# Altium footprint library MCU Board.PCBLIB: 34 footprints (part 3 of 3)
Each footprint in its own frame and in the unit in brackets; x right, y up, seen from the top. Pads: shape width x height; smd on the part's side, far side on the other; paste and mask are expansions set on the pad; w line width, h text height; cw(c..) or ccw(c..) is an arc to the next point about the centre after c.
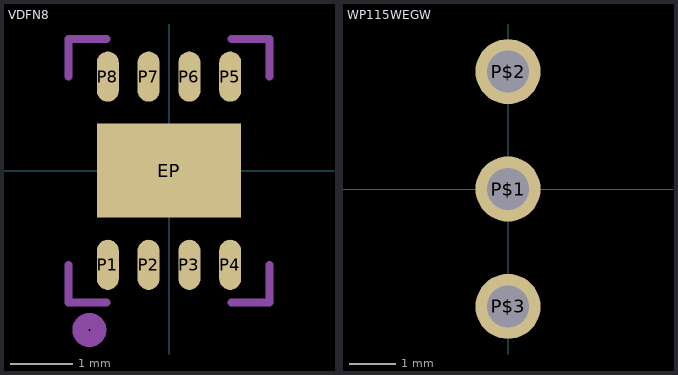
[diagram p2: the footprints below, top view; thin cyan lines are the x and y axes]

## VDFN8 [mil]
pads (9):
  rect 90.55x59.06 smd: EP(0,0)
  rrect100% 13.78x31.5 smd: P1(-38.39,-59.06) P2(-12.8,-59.06) P3(12.8,-59.06) P4(38.39,-59.06) P5(38.39,59.06) P6(12.8,59.06) P7(-12.8,59.06) P8(-38.39,59.06)
tDocu:
  circle w10: c-50,-100 r5.66
  lines w5: -62.99,-59.06 -62.99,-82.68 -39.37,-82.68 ; -62.99,59.06 -62.99,82.68 -39.37,82.68 ; 39.37,-82.68 62.99,-82.68 62.99,-59.06 ; 39.37,82.68 62.99,82.68 62.99,59.06

## WP115WEGW [mil]
pads (3):
  round 55.43 hole 35.43: P$1(0,0) P$2(0,100) P$3(0,-100)